# Altium schematic symbol library rcl@1.SCHLIB: 895 symbols (part 3 of 5)
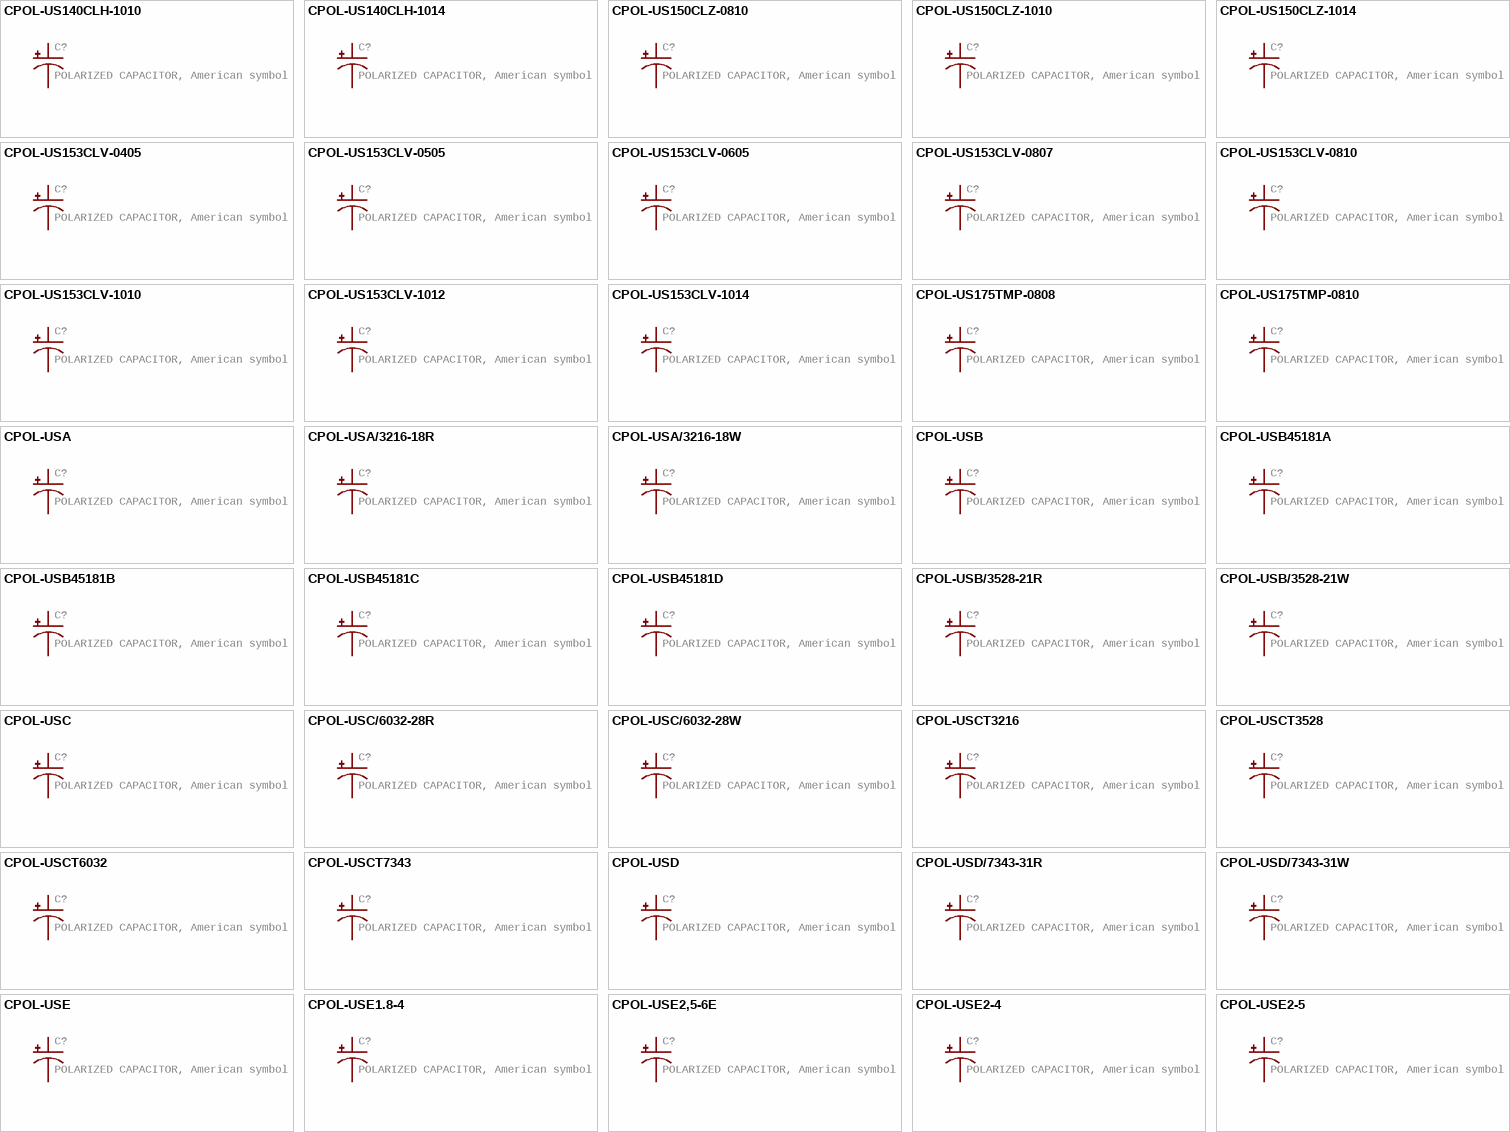
[diagram p24: symbols CPOL-US140CLH-1010 to CPOL-USE2-5]

## CPOL-USB/3528-21R
designator C?, comment POLARIZED CAPACITOR, American symbol
GateName_1: G$1; SymbolName_1: CPOL-US; DeviceName: B/3528-21R; POPULARITY: 0; LibraryName: rcl@1; DeviceSetName: CPOL-US; Package: B/3528-21R; SPICEPREFIX: C
footprint B/3528-21R
pins: +, -

## CPOL-USB/3528-21W
designator C?, comment POLARIZED CAPACITOR, American symbol
GateName_1: G$1; SymbolName_1: CPOL-US; DeviceName: B/3528-21W; POPULARITY: 3; LibraryName: rcl@1; DeviceSetName: CPOL-US; Package: B/3528-21W; SPICEPREFIX: C
footprint B/3528-21W
pins: +, -

## CPOL-USC
designator C?, comment POLARIZED CAPACITOR, American symbol
GateName_1: G$1; SymbolName_1: CPOL-US; DeviceName: C; POPULARITY: 5; LibraryName: rcl@1; DeviceSetName: CPOL-US; Package: PANASONIC_C; SPICEPREFIX: C
footprint PANASONIC_C
pins: +, -

## CPOL-USC/6032-28R
designator C?, comment POLARIZED CAPACITOR, American symbol
GateName_1: G$1; SymbolName_1: CPOL-US; DeviceName: C/6032-28R; POPULARITY: 0; LibraryName: rcl@1; DeviceSetName: CPOL-US; Package: C/6032-28R; SPICEPREFIX: C
footprint C/6032-28R
pins: +, -

## CPOL-USC/6032-28W
designator C?, comment POLARIZED CAPACITOR, American symbol
GateName_1: G$1; SymbolName_1: CPOL-US; DeviceName: C/6032-28W; POPULARITY: 0; LibraryName: rcl@1; DeviceSetName: CPOL-US; Package: C/6032-28W; SPICEPREFIX: C
footprint C/6032-28W
pins: +, -

## CPOL-USCT3216
designator C?, comment POLARIZED CAPACITOR, American symbol
GateName_1: G$1; SymbolName_1: CPOL-US; DeviceName: CT3216; POPULARITY: 2; LibraryName: rcl@1; DeviceSetName: CPOL-US; Package: CT3216; SPICEPREFIX: C
footprint CT3216
pins: +, -

## CPOL-USCT3528
designator C?, comment POLARIZED CAPACITOR, American symbol
GateName_1: G$1; SymbolName_1: CPOL-US; DeviceName: CT3528; POPULARITY: 2; LibraryName: rcl@1; DeviceSetName: CPOL-US; Package: CT3528; SPICEPREFIX: C
footprint CT3528
pins: +, -

## CPOL-USCT6032
designator C?, comment POLARIZED CAPACITOR, American symbol
GateName_1: G$1; SymbolName_1: CPOL-US; DeviceName: CT6032; POPULARITY: 0; LibraryName: rcl@1; DeviceSetName: CPOL-US; Package: CT6032; SPICEPREFIX: C
footprint CT6032
pins: +, -

## CPOL-USCT7343
designator C?, comment POLARIZED CAPACITOR, American symbol
GateName_1: G$1; SymbolName_1: CPOL-US; DeviceName: CT7343; POPULARITY: 7; LibraryName: rcl@1; DeviceSetName: CPOL-US; Package: CT7343; SPICEPREFIX: C
footprint CT7343
pins: +, -

## CPOL-USD
designator C?, comment POLARIZED CAPACITOR, American symbol
GateName_1: G$1; SymbolName_1: CPOL-US; DeviceName: D; POPULARITY: 7; LibraryName: rcl@1; DeviceSetName: CPOL-US; Package: PANASONIC_D; SPICEPREFIX: C
footprint PANASONIC_D
pins: +, -

## CPOL-USD/7343-31R
designator C?, comment POLARIZED CAPACITOR, American symbol
GateName_1: G$1; SymbolName_1: CPOL-US; DeviceName: D/7343-31R; POPULARITY: 1; LibraryName: rcl@1; DeviceSetName: CPOL-US; Package: D/7343-31R; SPICEPREFIX: C
footprint D/7343-31R
pins: +, -

## CPOL-USD/7343-31W
designator C?, comment POLARIZED CAPACITOR, American symbol
GateName_1: G$1; SymbolName_1: CPOL-US; DeviceName: D/7343-31W; POPULARITY: 1; LibraryName: rcl@1; DeviceSetName: CPOL-US; Package: D/7343-31W; SPICEPREFIX: C
footprint D/7343-31W
pins: +, -

## CPOL-USE
designator C?, comment POLARIZED CAPACITOR, American symbol
GateName_1: G$1; SymbolName_1: CPOL-US; DeviceName: E; POPULARITY: 0; LibraryName: rcl@1; DeviceSetName: CPOL-US; Package: PANASONIC_E; SPICEPREFIX: C
footprint PANASONIC_E
pins: +, -

## CPOL-USE1.8-4
designator C?, comment POLARIZED CAPACITOR, American symbol
GateName_1: G$1; SymbolName_1: CPOL-US; DeviceName: E1.8-4; POPULARITY: 6; LibraryName: rcl@1; DeviceSetName: CPOL-US; Package: E1,8-4; SPICEPREFIX: C
footprint E1,8-4
pins: +, -

## CPOL-USE2,5-6E
designator C?, comment POLARIZED CAPACITOR, American symbol
GateName_1: G$1; SymbolName_1: CPOL-US; DeviceName: E2,5-6E; POPULARITY: 1; LibraryName: rcl@1; DeviceSetName: CPOL-US; Package: E2,5-6E; SPICEPREFIX: C
footprint E2,5-6E
pins: +, -

## CPOL-USE2-4
designator C?, comment POLARIZED CAPACITOR, American symbol
GateName_1: G$1; SymbolName_1: CPOL-US; DeviceName: E2-4; POPULARITY: 0; LibraryName: rcl@1; DeviceSetName: CPOL-US; Package: E2-4; SPICEPREFIX: C
footprint E2-4
pins: +, -

## CPOL-USE2-5
designator C?, comment POLARIZED CAPACITOR, American symbol
GateName_1: G$1; SymbolName_1: CPOL-US; DeviceName: E2-5; POPULARITY: 7; LibraryName: rcl@1; DeviceSetName: CPOL-US; Package: E2-5; SPICEPREFIX: C
footprint E2-5
pins: +, -

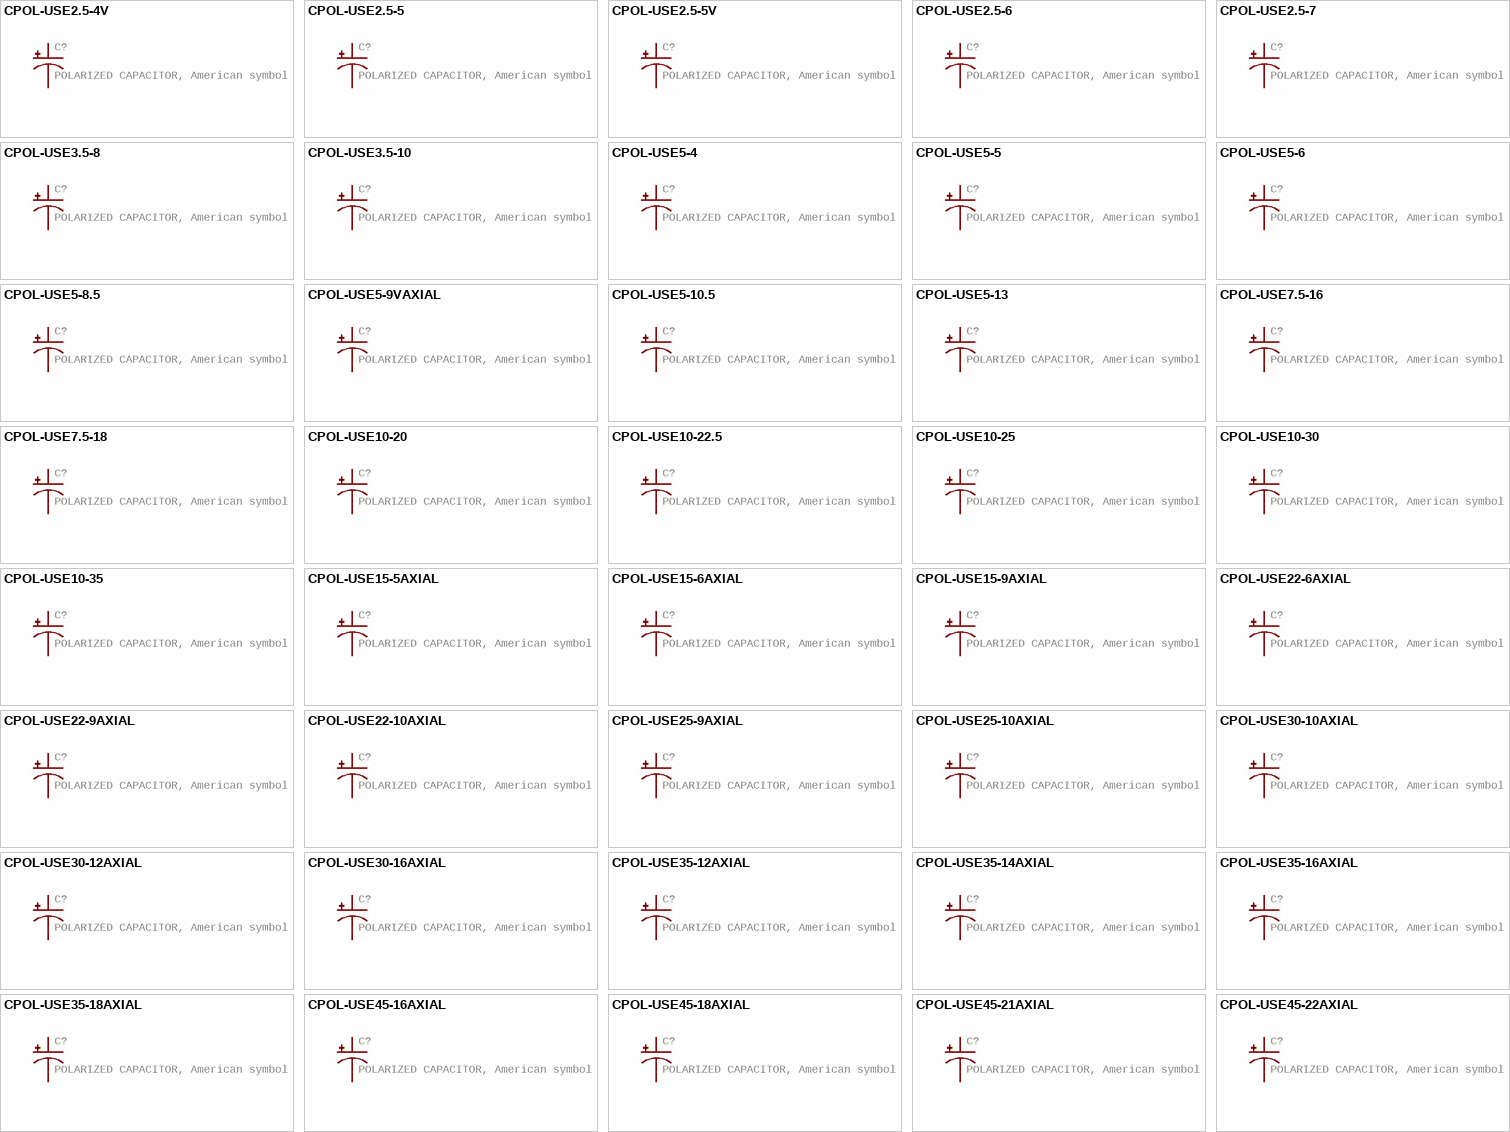
[diagram p10: symbols CPOL-USE2.5-4V to CPOL-USE45-22AXIAL]

## CPOL-USE2.5-4V
designator C?, comment POLARIZED CAPACITOR, American symbol
GateName_1: G$1; SymbolName_1: CPOL-US; DeviceName: E2.5-4V; POPULARITY: 0; LibraryName: rcl@1; DeviceSetName: CPOL-US; Package: E2,5RE; SPICEPREFIX: C
footprint E2,5RE
pins: +, -

## CPOL-USE2.5-5
designator C?, comment POLARIZED CAPACITOR, American symbol
GateName_1: G$1; SymbolName_1: CPOL-US; DeviceName: E2.5-5; POPULARITY: 8; LibraryName: rcl@1; DeviceSetName: CPOL-US; Package: E2,5-5; SPICEPREFIX: C
footprint E2,5-5
pins: +, -

## CPOL-USE2.5-5V
designator C?, comment POLARIZED CAPACITOR, American symbol
GateName_1: G$1; SymbolName_1: CPOL-US; DeviceName: E2.5-5V; POPULARITY: 0; LibraryName: rcl@1; DeviceSetName: CPOL-US; Package: E2,5-4R; SPICEPREFIX: C
footprint E2,5-4R
pins: +, -

## CPOL-USE2.5-6
designator C?, comment POLARIZED CAPACITOR, American symbol
GateName_1: G$1; SymbolName_1: CPOL-US; DeviceName: E2.5-6; POPULARITY: 14; LibraryName: rcl@1; DeviceSetName: CPOL-US; Package: E2,5-6; SPICEPREFIX: C
footprint E2,5-6
pins: +, -

## CPOL-USE2.5-7
designator C?, comment POLARIZED CAPACITOR, American symbol
GateName_1: G$1; SymbolName_1: CPOL-US; DeviceName: E2.5-7; POPULARITY: 0; LibraryName: rcl@1; DeviceSetName: CPOL-US; Package: E2,5-7; SPICEPREFIX: C
footprint E2,5-7
pins: +, -

## CPOL-USE3.5-8
designator C?, comment POLARIZED CAPACITOR, American symbol
GateName_1: G$1; SymbolName_1: CPOL-US; DeviceName: E3.5-8; POPULARITY: 9; LibraryName: rcl@1; DeviceSetName: CPOL-US; Package: E3,5-8; SPICEPREFIX: C
footprint E3,5-8
pins: +, -

## CPOL-USE3.5-10
designator C?, comment POLARIZED CAPACITOR, American symbol
GateName_1: G$1; SymbolName_1: CPOL-US; DeviceName: E3.5-10; POPULARITY: 6; LibraryName: rcl@1; DeviceSetName: CPOL-US; Package: E3,5-10; SPICEPREFIX: C
footprint E3,5-10
pins: +, -

## CPOL-USE5-4
designator C?, comment POLARIZED CAPACITOR, American symbol
GateName_1: G$1; SymbolName_1: CPOL-US; DeviceName: E5-4; POPULARITY: 0; LibraryName: rcl@1; DeviceSetName: CPOL-US; Package: E5-4; SPICEPREFIX: C
footprint E5-4
pins: +, -

## CPOL-USE5-5
designator C?, comment POLARIZED CAPACITOR, American symbol
GateName_1: G$1; SymbolName_1: CPOL-US; DeviceName: E5-5; POPULARITY: 5; LibraryName: rcl@1; DeviceSetName: CPOL-US; Package: E5-5; SPICEPREFIX: C
footprint E5-5
pins: +, -

## CPOL-USE5-6
designator C?, comment POLARIZED CAPACITOR, American symbol
GateName_1: G$1; SymbolName_1: CPOL-US; DeviceName: E5-6; POPULARITY: 4; LibraryName: rcl@1; DeviceSetName: CPOL-US; Package: E5-6; SPICEPREFIX: C
footprint E5-6
pins: +, -

## CPOL-USE5-8.5
designator C?, comment POLARIZED CAPACITOR, American symbol
GateName_1: G$1; SymbolName_1: CPOL-US; DeviceName: E5-8.5; POPULARITY: 4; LibraryName: rcl@1; DeviceSetName: CPOL-US; Package: E5-8,5; SPICEPREFIX: C
footprint E5-8,5
pins: +, -

## CPOL-USE5-9VAXIAL
designator C?, comment POLARIZED CAPACITOR, American symbol
GateName_1: G$1; SymbolName_1: CPOL-US; DeviceName: E5-9VAXIAL; POPULARITY: 0; LibraryName: rcl@1; DeviceSetName: CPOL-US; Package: E5R; SPICEPREFIX: C
footprint E5R
pins: +, -

## CPOL-USE5-10.5
designator C?, comment POLARIZED CAPACITOR, American symbol
GateName_1: G$1; SymbolName_1: CPOL-US; DeviceName: E5-10.5; POPULARITY: 12; LibraryName: rcl@1; DeviceSetName: CPOL-US; Package: E5-10,5; SPICEPREFIX: C
footprint E5-10,5
pins: +, -

## CPOL-USE5-13
designator C?, comment POLARIZED CAPACITOR, American symbol
GateName_1: G$1; SymbolName_1: CPOL-US; DeviceName: E5-13; POPULARITY: 7; LibraryName: rcl@1; DeviceSetName: CPOL-US; Package: E5-13; SPICEPREFIX: C
footprint E5-13
pins: +, -

## CPOL-USE7.5-16
designator C?, comment POLARIZED CAPACITOR, American symbol
GateName_1: G$1; SymbolName_1: CPOL-US; DeviceName: E7.5-16; POPULARITY: 0; LibraryName: rcl@1; DeviceSetName: CPOL-US; Package: E7,5-16; SPICEPREFIX: C
footprint E7,5-16
pins: +, -

## CPOL-USE7.5-18
designator C?, comment POLARIZED CAPACITOR, American symbol
GateName_1: G$1; SymbolName_1: CPOL-US; DeviceName: E7.5-18; POPULARITY: 3; LibraryName: rcl@1; DeviceSetName: CPOL-US; Package: E7,5-18; SPICEPREFIX: C
footprint E7,5-18
pins: +, -

## CPOL-USE10-20
designator C?, comment POLARIZED CAPACITOR, American symbol
GateName_1: G$1; SymbolName_1: CPOL-US; DeviceName: E10-20; POPULARITY: 0; LibraryName: rcl@1; DeviceSetName: CPOL-US; Package: EB20D; SPICEPREFIX: C
footprint EB20D
pins: +, -

## CPOL-USE10-22.5
designator C?, comment POLARIZED CAPACITOR, American symbol
GateName_1: G$1; SymbolName_1: CPOL-US; DeviceName: E10-22.5; POPULARITY: 0; LibraryName: rcl@1; DeviceSetName: CPOL-US; Package: EB22,5D; SPICEPREFIX: C
footprint EB22,5D
pins: +, -

## CPOL-USE10-25
designator C?, comment POLARIZED CAPACITOR, American symbol
GateName_1: G$1; SymbolName_1: CPOL-US; DeviceName: E10-25; POPULARITY: 0; LibraryName: rcl@1; DeviceSetName: CPOL-US; Package: EB25D; SPICEPREFIX: C
footprint EB25D
pins: +, -

## CPOL-USE10-30
designator C?, comment POLARIZED CAPACITOR, American symbol
GateName_1: G$1; SymbolName_1: CPOL-US; DeviceName: E10-30; POPULARITY: 1; LibraryName: rcl@1; DeviceSetName: CPOL-US; Package: EB30D; SPICEPREFIX: C
footprint EB30D
pins: +, -

## CPOL-USE10-35
designator C?, comment POLARIZED CAPACITOR, American symbol
GateName_1: G$1; SymbolName_1: CPOL-US; DeviceName: E10-35; POPULARITY: 0; LibraryName: rcl@1; DeviceSetName: CPOL-US; Package: EB35D; SPICEPREFIX: C
footprint EB35D
pins: +, -

## CPOL-USE15-5AXIAL
designator C?, comment POLARIZED CAPACITOR, American symbol
GateName_1: G$1; SymbolName_1: CPOL-US; DeviceName: E15-5AXIAL; POPULARITY: 0; LibraryName: rcl@1; DeviceSetName: CPOL-US; Package: E15-5; SPICEPREFIX: C
footprint E15-5
pins: +, -

## CPOL-USE15-6AXIAL
designator C?, comment POLARIZED CAPACITOR, American symbol
GateName_1: G$1; SymbolName_1: CPOL-US; DeviceName: E15-6AXIAL; POPULARITY: 0; LibraryName: rcl@1; DeviceSetName: CPOL-US; Package: E15-6; SPICEPREFIX: C
footprint E15-6
pins: +, -

## CPOL-USE15-9AXIAL
designator C?, comment POLARIZED CAPACITOR, American symbol
GateName_1: G$1; SymbolName_1: CPOL-US; DeviceName: E15-9AXIAL; POPULARITY: 0; LibraryName: rcl@1; DeviceSetName: CPOL-US; Package: E15-9; SPICEPREFIX: C
footprint E15-9
pins: +, -

## CPOL-USE22-6AXIAL
designator C?, comment POLARIZED CAPACITOR, American symbol
GateName_1: G$1; SymbolName_1: CPOL-US; DeviceName: E22-6AXIAL; POPULARITY: 0; LibraryName: rcl@1; DeviceSetName: CPOL-US; Package: E22-6; SPICEPREFIX: C
footprint E22-6
pins: +, -

## CPOL-USE22-9AXIAL
designator C?, comment POLARIZED CAPACITOR, American symbol
GateName_1: G$1; SymbolName_1: CPOL-US; DeviceName: E22-9AXIAL; POPULARITY: 0; LibraryName: rcl@1; DeviceSetName: CPOL-US; Package: E22-9; SPICEPREFIX: C
footprint E22-9
pins: +, -

## CPOL-USE22-10AXIAL
designator C?, comment POLARIZED CAPACITOR, American symbol
GateName_1: G$1; SymbolName_1: CPOL-US; DeviceName: E22-10AXIAL; POPULARITY: 0; LibraryName: rcl@1; DeviceSetName: CPOL-US; Package: E22-10; SPICEPREFIX: C
footprint E22-10
pins: +, -

## CPOL-USE25-9AXIAL
designator C?, comment POLARIZED CAPACITOR, American symbol
GateName_1: G$1; SymbolName_1: CPOL-US; DeviceName: E25-9AXIAL; POPULARITY: 0; LibraryName: rcl@1; DeviceSetName: CPOL-US; Package: E25-9; SPICEPREFIX: C
footprint E25-9
pins: +, -

## CPOL-USE25-10AXIAL
designator C?, comment POLARIZED CAPACITOR, American symbol
GateName_1: G$1; SymbolName_1: CPOL-US; DeviceName: E25-10AXIAL; POPULARITY: 0; LibraryName: rcl@1; DeviceSetName: CPOL-US; Package: E25-10; SPICEPREFIX: C
footprint E25-10
pins: +, -

## CPOL-USE30-10AXIAL
designator C?, comment POLARIZED CAPACITOR, American symbol
GateName_1: G$1; SymbolName_1: CPOL-US; DeviceName: E30-10AXIAL; POPULARITY: 0; LibraryName: rcl@1; DeviceSetName: CPOL-US; Package: E30-10; SPICEPREFIX: C
footprint E30-10
pins: +, -

## CPOL-USE30-12AXIAL
designator C?, comment POLARIZED CAPACITOR, American symbol
GateName_1: G$1; SymbolName_1: CPOL-US; DeviceName: E30-12AXIAL; POPULARITY: 0; LibraryName: rcl@1; DeviceSetName: CPOL-US; Package: E30-12; SPICEPREFIX: C
footprint E30-12
pins: +, -

## CPOL-USE30-16AXIAL
designator C?, comment POLARIZED CAPACITOR, American symbol
GateName_1: G$1; SymbolName_1: CPOL-US; DeviceName: E30-16AXIAL; POPULARITY: 0; LibraryName: rcl@1; DeviceSetName: CPOL-US; Package: E30-16; SPICEPREFIX: C
footprint E30-16
pins: +, -

## CPOL-USE35-12AXIAL
designator C?, comment POLARIZED CAPACITOR, American symbol
GateName_1: G$1; SymbolName_1: CPOL-US; DeviceName: E35-12AXIAL; POPULARITY: 0; LibraryName: rcl@1; DeviceSetName: CPOL-US; Package: E35-12; SPICEPREFIX: C
footprint E35-12
pins: +, -

## CPOL-USE35-14AXIAL
designator C?, comment POLARIZED CAPACITOR, American symbol
GateName_1: G$1; SymbolName_1: CPOL-US; DeviceName: E35-14AXIAL; POPULARITY: 0; LibraryName: rcl@1; DeviceSetName: CPOL-US; Package: E35-14; SPICEPREFIX: C
footprint E35-14
pins: +, -

## CPOL-USE35-16AXIAL
designator C?, comment POLARIZED CAPACITOR, American symbol
GateName_1: G$1; SymbolName_1: CPOL-US; DeviceName: E35-16AXIAL; POPULARITY: 0; LibraryName: rcl@1; DeviceSetName: CPOL-US; Package: E35-16; SPICEPREFIX: C
footprint E35-16
pins: +, -

## CPOL-USE35-18AXIAL
designator C?, comment POLARIZED CAPACITOR, American symbol
GateName_1: G$1; SymbolName_1: CPOL-US; DeviceName: E35-18AXIAL; POPULARITY: 0; LibraryName: rcl@1; DeviceSetName: CPOL-US; Package: E35-18; SPICEPREFIX: C
footprint E35-18
pins: +, -

## CPOL-USE45-16AXIAL
designator C?, comment POLARIZED CAPACITOR, American symbol
GateName_1: G$1; SymbolName_1: CPOL-US; DeviceName: E45-16AXIAL; POPULARITY: 0; LibraryName: rcl@1; DeviceSetName: CPOL-US; Package: E45-16; SPICEPREFIX: C
footprint E45-16
pins: +, -

## CPOL-USE45-18AXIAL
designator C?, comment POLARIZED CAPACITOR, American symbol
GateName_1: G$1; SymbolName_1: CPOL-US; DeviceName: E45-18AXIAL; POPULARITY: 0; LibraryName: rcl@1; DeviceSetName: CPOL-US; Package: E45-18; SPICEPREFIX: C
footprint E45-18
pins: +, -

## CPOL-USE45-21AXIAL
designator C?, comment POLARIZED CAPACITOR, American symbol
GateName_1: G$1; SymbolName_1: CPOL-US; DeviceName: E45-21AXIAL; POPULARITY: 0; LibraryName: rcl@1; DeviceSetName: CPOL-US; Package: E45-21; SPICEPREFIX: C
footprint E45-21
pins: +, -

## CPOL-USE45-22AXIAL
designator C?, comment POLARIZED CAPACITOR, American symbol
GateName_1: G$1; SymbolName_1: CPOL-US; DeviceName: E45-22AXIAL; POPULARITY: 0; LibraryName: rcl@1; DeviceSetName: CPOL-US; Package: E45-22; SPICEPREFIX: C
footprint E45-22
pins: +, -

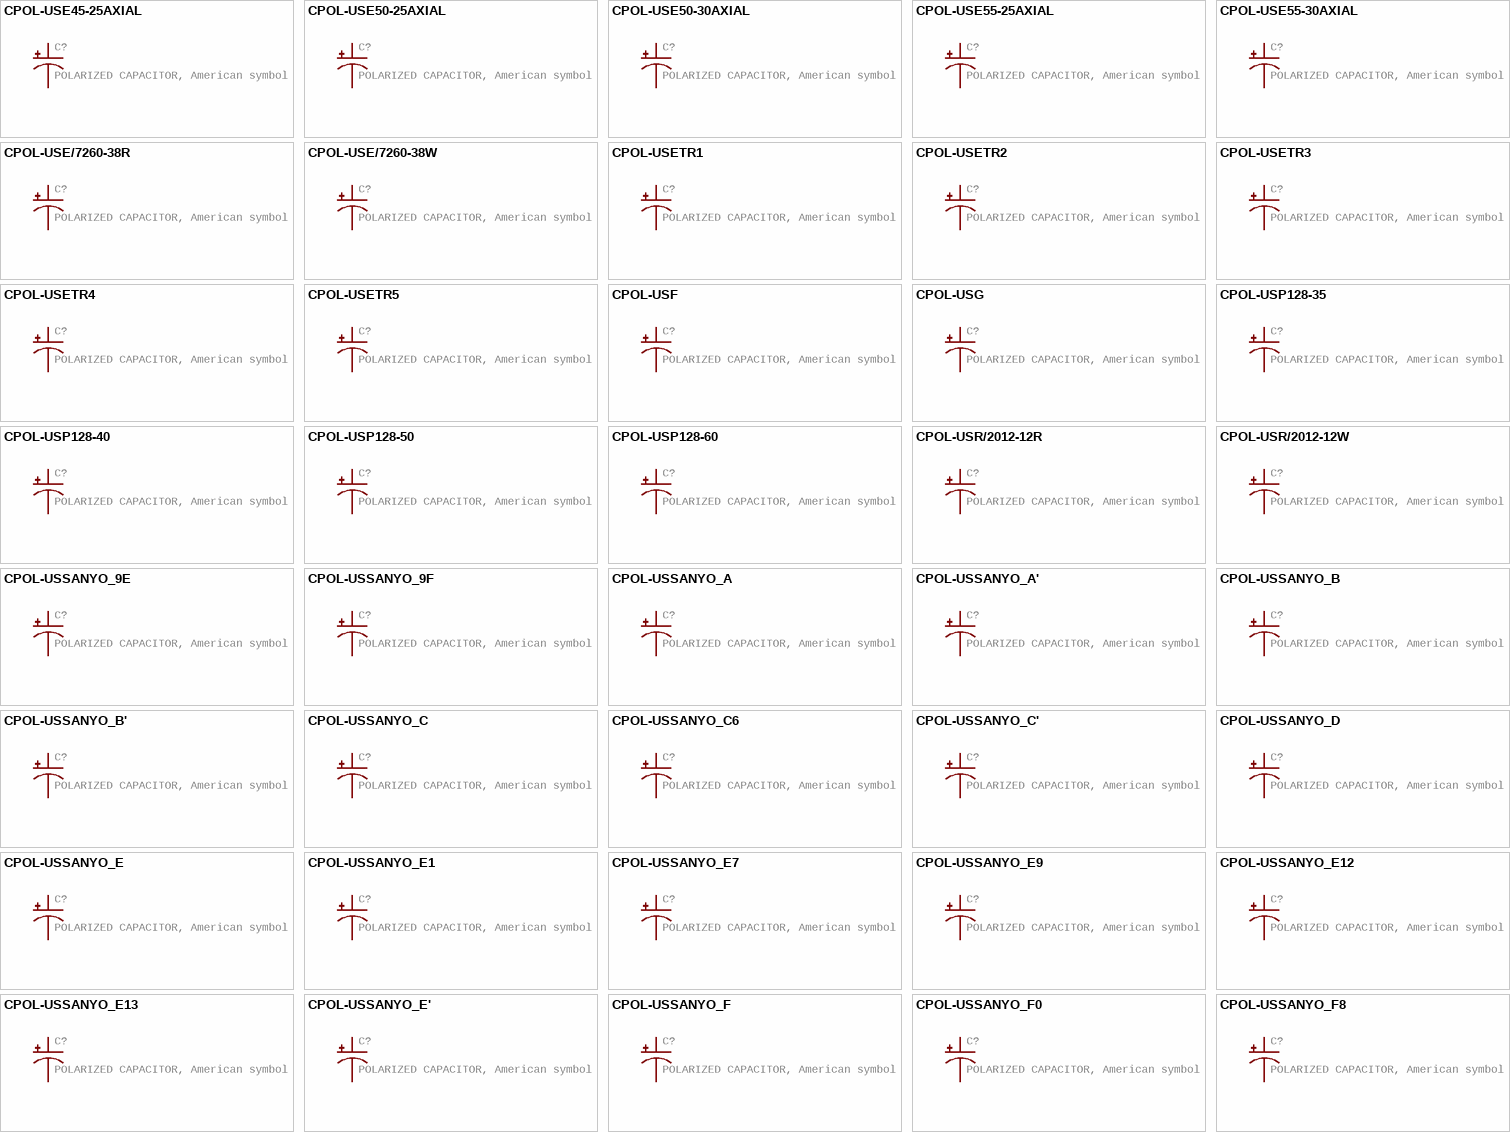
[diagram p11: symbols CPOL-USE45-25AXIAL to CPOL-USSANYO_F8]

## CPOL-USE45-25AXIAL
designator C?, comment POLARIZED CAPACITOR, American symbol
GateName_1: G$1; SymbolName_1: CPOL-US; DeviceName: E45-25AXIAL; POPULARITY: 0; LibraryName: rcl@1; DeviceSetName: CPOL-US; Package: E45-25; SPICEPREFIX: C
footprint E45-25
pins: +, -

## CPOL-USE50-25AXIAL
designator C?, comment POLARIZED CAPACITOR, American symbol
GateName_1: G$1; SymbolName_1: CPOL-US; DeviceName: E50-25AXIAL; POPULARITY: 0; LibraryName: rcl@1; DeviceSetName: CPOL-US; Package: E50-25; SPICEPREFIX: C
footprint E50-25
pins: +, -

## CPOL-USE50-30AXIAL
designator C?, comment POLARIZED CAPACITOR, American symbol
GateName_1: G$1; SymbolName_1: CPOL-US; DeviceName: E50-30AXIAL; POPULARITY: 0; LibraryName: rcl@1; DeviceSetName: CPOL-US; Package: E50-30; SPICEPREFIX: C
footprint E50-30
pins: +, -

## CPOL-USE55-25AXIAL
designator C?, comment POLARIZED CAPACITOR, American symbol
GateName_1: G$1; SymbolName_1: CPOL-US; DeviceName: E55-25AXIAL; POPULARITY: 0; LibraryName: rcl@1; DeviceSetName: CPOL-US; Package: E55-25; SPICEPREFIX: C
footprint E55-25
pins: +, -

## CPOL-USE55-30AXIAL
designator C?, comment POLARIZED CAPACITOR, American symbol
GateName_1: G$1; SymbolName_1: CPOL-US; DeviceName: E55-30AXIAL; POPULARITY: 0; LibraryName: rcl@1; DeviceSetName: CPOL-US; Package: E55-30; SPICEPREFIX: C
footprint E55-30
pins: +, -

## CPOL-USE/7260-38R
designator C?, comment POLARIZED CAPACITOR, American symbol
GateName_1: G$1; SymbolName_1: CPOL-US; DeviceName: E/7260-38R; POPULARITY: 1; LibraryName: rcl@1; DeviceSetName: CPOL-US; Package: E/7260-38R; SPICEPREFIX: C
footprint E/7260-38R
pins: +, -

## CPOL-USE/7260-38W
designator C?, comment POLARIZED CAPACITOR, American symbol
GateName_1: G$1; SymbolName_1: CPOL-US; DeviceName: E/7260-38W; POPULARITY: 0; LibraryName: rcl@1; DeviceSetName: CPOL-US; Package: E/7260-38W; SPICEPREFIX: C
footprint E/7260-38W
pins: +, -

## CPOL-USETR1
designator C?, comment POLARIZED CAPACITOR, American symbol
GateName_1: G$1; SymbolName_1: CPOL-US; DeviceName: ETR1; POPULARITY: 0; LibraryName: rcl@1; DeviceSetName: CPOL-US; Package: ETR1; SPICEPREFIX: C
footprint ETR1
pins: +, -

## CPOL-USETR2
designator C?, comment POLARIZED CAPACITOR, American symbol
GateName_1: G$1; SymbolName_1: CPOL-US; DeviceName: ETR2; POPULARITY: 0; LibraryName: rcl@1; DeviceSetName: CPOL-US; Package: ETR2; SPICEPREFIX: C
footprint ETR2
pins: +, -

## CPOL-USETR3
designator C?, comment POLARIZED CAPACITOR, American symbol
GateName_1: G$1; SymbolName_1: CPOL-US; DeviceName: ETR3; POPULARITY: 4; LibraryName: rcl@1; DeviceSetName: CPOL-US; Package: ETR3; SPICEPREFIX: C
footprint ETR3
pins: +, -

## CPOL-USETR4
designator C?, comment POLARIZED CAPACITOR, American symbol
GateName_1: G$1; SymbolName_1: CPOL-US; DeviceName: ETR4; POPULARITY: 0; LibraryName: rcl@1; DeviceSetName: CPOL-US; Package: ETR4; SPICEPREFIX: C
footprint ETR4
pins: +, -

## CPOL-USETR5
designator C?, comment POLARIZED CAPACITOR, American symbol
GateName_1: G$1; SymbolName_1: CPOL-US; DeviceName: ETR5; POPULARITY: 0; LibraryName: rcl@1; DeviceSetName: CPOL-US; Package: ETR5; SPICEPREFIX: C
footprint ETR5
pins: +, -

## CPOL-USF
designator C?, comment POLARIZED CAPACITOR, American symbol
GateName_1: G$1; SymbolName_1: CPOL-US; DeviceName: F; POPULARITY: 2; LibraryName: rcl@1; DeviceSetName: CPOL-US; Package: PANASONIC_F; SPICEPREFIX: C
footprint PANASONIC_F
pins: +, -

## CPOL-USG
designator C?, comment POLARIZED CAPACITOR, American symbol
GateName_1: G$1; SymbolName_1: CPOL-US; DeviceName: G; POPULARITY: 0; LibraryName: rcl@1; DeviceSetName: CPOL-US; Package: PANASONIC_G; SPICEPREFIX: C
footprint PANASONIC_G
pins: +, -

## CPOL-USP128-35
designator C?, comment POLARIZED CAPACITOR, American symbol
GateName_1: G$1; SymbolName_1: CPOL-US; DeviceName: P128-35; POPULARITY: 0; LibraryName: rcl@1; DeviceSetName: CPOL-US; Package: P128-35; SPICEPREFIX: C
footprint P128-35
pins: +, -

## CPOL-USP128-40
designator C?, comment POLARIZED CAPACITOR, American symbol
GateName_1: G$1; SymbolName_1: CPOL-US; DeviceName: P128-40; POPULARITY: 0; LibraryName: rcl@1; DeviceSetName: CPOL-US; Package: P128-40; SPICEPREFIX: C
footprint P128-40
pins: +, -

## CPOL-USP128-50
designator C?, comment POLARIZED CAPACITOR, American symbol
GateName_1: G$1; SymbolName_1: CPOL-US; DeviceName: P128-50; POPULARITY: 0; LibraryName: rcl@1; DeviceSetName: CPOL-US; Package: P128-50; SPICEPREFIX: C
footprint P128-50
pins: +, -

## CPOL-USP128-60
designator C?, comment POLARIZED CAPACITOR, American symbol
GateName_1: G$1; SymbolName_1: CPOL-US; DeviceName: P128-60; POPULARITY: 0; LibraryName: rcl@1; DeviceSetName: CPOL-US; Package: P128-60; SPICEPREFIX: C
footprint P128-60
pins: +, -

## CPOL-USR/2012-12R
designator C?, comment POLARIZED CAPACITOR, American symbol
GateName_1: G$1; SymbolName_1: CPOL-US; DeviceName: R/2012-12R; POPULARITY: 0; LibraryName: rcl@1; DeviceSetName: CPOL-US; Package: R/2012-12R; SPICEPREFIX: C
footprint R/2012-12R
pins: +, -

## CPOL-USR/2012-12W
designator C?, comment POLARIZED CAPACITOR, American symbol
GateName_1: G$1; SymbolName_1: CPOL-US; DeviceName: R/2012-12W; POPULARITY: 0; LibraryName: rcl@1; DeviceSetName: CPOL-US; Package: R/2012-12W; SPICEPREFIX: C
footprint R/2012-12W
pins: +, -

## CPOL-USSANYO_9E
designator C?, comment POLARIZED CAPACITOR, American symbol
GateName_1: G$1; SymbolName_1: CPOL-US; DeviceName: SANYO_9E; POPULARITY: 0; LibraryName: rcl@1; DeviceSetName: CPOL-US; Package: SANYO-OSCON_9E; SPICEPREFIX: C
footprint SANYO-OSCON_9E
pins: +, -

## CPOL-USSANYO_9F
designator C?, comment POLARIZED CAPACITOR, American symbol
GateName_1: G$1; SymbolName_1: CPOL-US; DeviceName: SANYO_9F; POPULARITY: 0; LibraryName: rcl@1; DeviceSetName: CPOL-US; Package: SANYO-OSCON_9F; SPICEPREFIX: C
footprint SANYO-OSCON_9F
pins: +, -

## CPOL-USSANYO_A
designator C?, comment POLARIZED CAPACITOR, American symbol
GateName_1: G$1; SymbolName_1: CPOL-US; DeviceName: SANYO_A; POPULARITY: 0; LibraryName: rcl@1; DeviceSetName: CPOL-US; Package: SANYO-OSCON_A; SPICEPREFIX: C
footprint SANYO-OSCON_A
pins: +, -

## CPOL-USSANYO_A'
designator C?, comment POLARIZED CAPACITOR, American symbol
GateName_1: G$1; SymbolName_1: CPOL-US; DeviceName: SANYO_A'; POPULARITY: 0; LibraryName: rcl@1; DeviceSetName: CPOL-US; Package: SANYO-OSCON_A'; SPICEPREFIX: C
footprint SANYO-OSCON_A'
pins: +, -

## CPOL-USSANYO_B
designator C?, comment POLARIZED CAPACITOR, American symbol
GateName_1: G$1; SymbolName_1: CPOL-US; DeviceName: SANYO_B; POPULARITY: 0; LibraryName: rcl@1; DeviceSetName: CPOL-US; Package: SANYO-OSCON_B; SPICEPREFIX: C
footprint SANYO-OSCON_B
pins: +, -

## CPOL-USSANYO_B'
designator C?, comment POLARIZED CAPACITOR, American symbol
GateName_1: G$1; SymbolName_1: CPOL-US; DeviceName: SANYO_B'; POPULARITY: 0; LibraryName: rcl@1; DeviceSetName: CPOL-US; Package: SANYO-OSCON_B'; SPICEPREFIX: C
footprint SANYO-OSCON_B'
pins: +, -

## CPOL-USSANYO_C
designator C?, comment POLARIZED CAPACITOR, American symbol
GateName_1: G$1; SymbolName_1: CPOL-US; DeviceName: SANYO_C; POPULARITY: 0; LibraryName: rcl@1; DeviceSetName: CPOL-US; Package: SANYO-OSCON_C; SPICEPREFIX: C
footprint SANYO-OSCON_C
pins: +, -

## CPOL-USSANYO_C6
designator C?, comment POLARIZED CAPACITOR, American symbol
GateName_1: G$1; SymbolName_1: CPOL-US; DeviceName: SANYO_C6; POPULARITY: 0; LibraryName: rcl@1; DeviceSetName: CPOL-US; Package: SANYO-OSCON_C6; SPICEPREFIX: C
footprint SANYO-OSCON_C6
pins: +, -

## CPOL-USSANYO_C'
designator C?, comment POLARIZED CAPACITOR, American symbol
GateName_1: G$1; SymbolName_1: CPOL-US; DeviceName: SANYO_C'; POPULARITY: 0; LibraryName: rcl@1; DeviceSetName: CPOL-US; Package: SANYO-OSCON_C'; SPICEPREFIX: C
footprint SANYO-OSCON_C'
pins: +, -

## CPOL-USSANYO_D
designator C?, comment POLARIZED CAPACITOR, American symbol
GateName_1: G$1; SymbolName_1: CPOL-US; DeviceName: SANYO_D; POPULARITY: 0; LibraryName: rcl@1; DeviceSetName: CPOL-US; Package: SANYO-OSCON_D; SPICEPREFIX: C
footprint SANYO-OSCON_D
pins: +, -

## CPOL-USSANYO_E
designator C?, comment POLARIZED CAPACITOR, American symbol
GateName_1: G$1; SymbolName_1: CPOL-US; DeviceName: SANYO_E; POPULARITY: 0; LibraryName: rcl@1; DeviceSetName: CPOL-US; Package: SANYO-OSCON_E; SPICEPREFIX: C
footprint SANYO-OSCON_E
pins: +, -

## CPOL-USSANYO_E1
designator C?, comment POLARIZED CAPACITOR, American symbol
GateName_1: G$1; SymbolName_1: CPOL-US; DeviceName: SANYO_E1; POPULARITY: 0; LibraryName: rcl@1; DeviceSetName: CPOL-US; Package: SANYO-OSCON_E1; SPICEPREFIX: C
footprint SANYO-OSCON_E1
pins: +, -

## CPOL-USSANYO_E7
designator C?, comment POLARIZED CAPACITOR, American symbol
GateName_1: G$1; SymbolName_1: CPOL-US; DeviceName: SANYO_E7; POPULARITY: 0; LibraryName: rcl@1; DeviceSetName: CPOL-US; Package: SANYO-OSCON_E7; SPICEPREFIX: C
footprint SANYO-OSCON_E7
pins: +, -

## CPOL-USSANYO_E9
designator C?, comment POLARIZED CAPACITOR, American symbol
GateName_1: G$1; SymbolName_1: CPOL-US; DeviceName: SANYO_E9; POPULARITY: 0; LibraryName: rcl@1; DeviceSetName: CPOL-US; Package: SANYO-OSCON_E9; SPICEPREFIX: C
footprint SANYO-OSCON_E9
pins: +, -

## CPOL-USSANYO_E12
designator C?, comment POLARIZED CAPACITOR, American symbol
GateName_1: G$1; SymbolName_1: CPOL-US; DeviceName: SANYO_E12; POPULARITY: 0; LibraryName: rcl@1; DeviceSetName: CPOL-US; Package: SANYO-OSCON_E12; SPICEPREFIX: C
footprint SANYO-OSCON_E12
pins: +, -

## CPOL-USSANYO_E13
designator C?, comment POLARIZED CAPACITOR, American symbol
GateName_1: G$1; SymbolName_1: CPOL-US; DeviceName: SANYO_E13; POPULARITY: 0; LibraryName: rcl@1; DeviceSetName: CPOL-US; Package: SANYO-OSCON_E13; SPICEPREFIX: C
footprint SANYO-OSCON_E13
pins: +, -

## CPOL-USSANYO_E'
designator C?, comment POLARIZED CAPACITOR, American symbol
GateName_1: G$1; SymbolName_1: CPOL-US; DeviceName: SANYO_E'; POPULARITY: 0; LibraryName: rcl@1; DeviceSetName: CPOL-US; Package: SANYO-OSCON_E'; SPICEPREFIX: C
footprint SANYO-OSCON_E'
pins: +, -

## CPOL-USSANYO_F
designator C?, comment POLARIZED CAPACITOR, American symbol
GateName_1: G$1; SymbolName_1: CPOL-US; DeviceName: SANYO_F; POPULARITY: 0; LibraryName: rcl@1; DeviceSetName: CPOL-US; Package: SANYO-OSCON_F; SPICEPREFIX: C
footprint SANYO-OSCON_F
pins: +, -

## CPOL-USSANYO_F0
designator C?, comment POLARIZED CAPACITOR, American symbol
GateName_1: G$1; SymbolName_1: CPOL-US; DeviceName: SANYO_F0; POPULARITY: 0; LibraryName: rcl@1; DeviceSetName: CPOL-US; Package: SANYO-OSCON_F0; SPICEPREFIX: C
footprint SANYO-OSCON_F0
pins: +, -

## CPOL-USSANYO_F8
designator C?, comment POLARIZED CAPACITOR, American symbol
GateName_1: G$1; SymbolName_1: CPOL-US; DeviceName: SANYO_F8; POPULARITY: 0; LibraryName: rcl@1; DeviceSetName: CPOL-US; Package: SANYO-OSCON_F8; SPICEPREFIX: C
footprint SANYO-OSCON_F8
pins: +, -

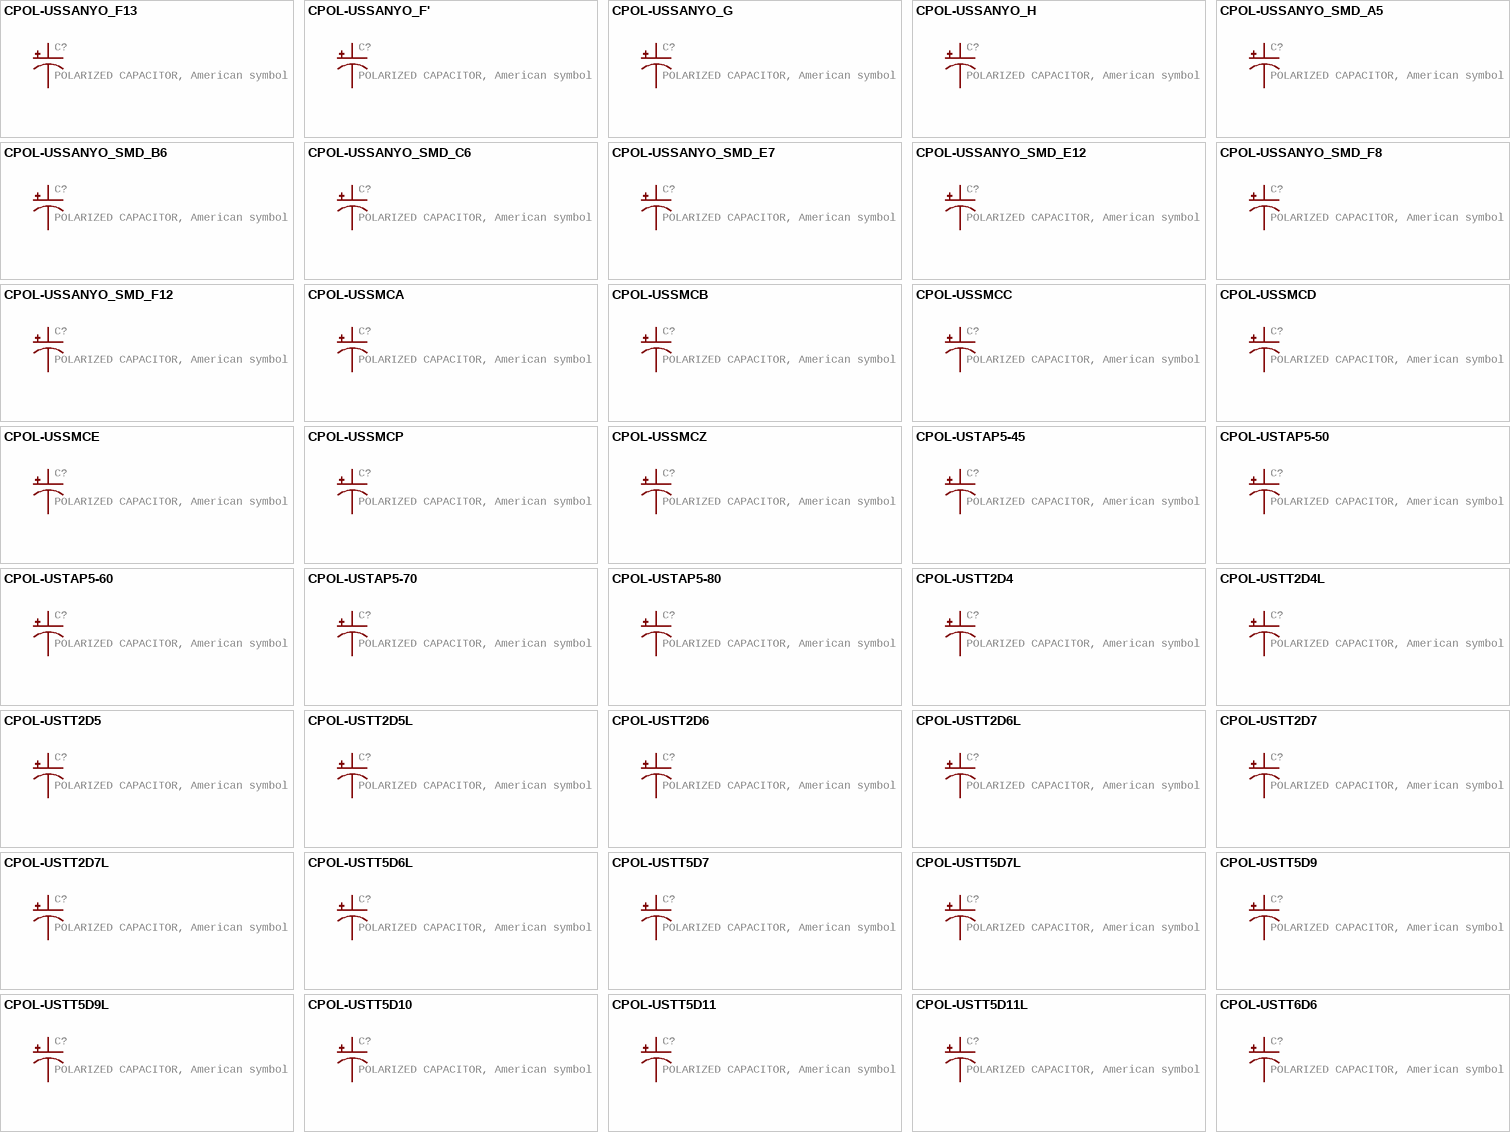
[diagram p12: symbols CPOL-USSANYO_F13 to CPOL-USTT6D6]

## CPOL-USSANYO_F13
designator C?, comment POLARIZED CAPACITOR, American symbol
GateName_1: G$1; SymbolName_1: CPOL-US; DeviceName: SANYO_F13; POPULARITY: 0; LibraryName: rcl@1; DeviceSetName: CPOL-US; Package: SANYO-OSCON_F13; SPICEPREFIX: C
footprint SANYO-OSCON_F13
pins: +, -

## CPOL-USSANYO_F'
designator C?, comment POLARIZED CAPACITOR, American symbol
GateName_1: G$1; SymbolName_1: CPOL-US; DeviceName: SANYO_F'; POPULARITY: 0; LibraryName: rcl@1; DeviceSetName: CPOL-US; Package: SANYO-OSCON_F'; SPICEPREFIX: C
footprint SANYO-OSCON_F'
pins: +, -

## CPOL-USSANYO_G
designator C?, comment POLARIZED CAPACITOR, American symbol
GateName_1: G$1; SymbolName_1: CPOL-US; DeviceName: SANYO_G; POPULARITY: 0; LibraryName: rcl@1; DeviceSetName: CPOL-US; Package: SANYO-OSCON_G; SPICEPREFIX: C
footprint SANYO-OSCON_G
pins: +, -

## CPOL-USSANYO_H
designator C?, comment POLARIZED CAPACITOR, American symbol
GateName_1: G$1; SymbolName_1: CPOL-US; DeviceName: SANYO_H; POPULARITY: 0; LibraryName: rcl@1; DeviceSetName: CPOL-US; Package: SANYO-OSCON_H; SPICEPREFIX: C
footprint SANYO-OSCON_H
pins: +, -

## CPOL-USSANYO_SMD_A5
designator C?, comment POLARIZED CAPACITOR, American symbol
GateName_1: G$1; SymbolName_1: CPOL-US; DeviceName: SANYO_SMD_A5; POPULARITY: 0; LibraryName: rcl@1; DeviceSetName: CPOL-US; Package: SANYO-OSCON_SMD_A5; SPICEPREFIX: C
footprint SANYO-OSCON_SMD_A5
pins: +, -

## CPOL-USSANYO_SMD_B6
designator C?, comment POLARIZED CAPACITOR, American symbol
GateName_1: G$1; SymbolName_1: CPOL-US; DeviceName: SANYO_SMD_B6; POPULARITY: 0; LibraryName: rcl@1; DeviceSetName: CPOL-US; Package: SANYO-OSCON_SMD_B6; SPICEPREFIX: C
footprint SANYO-OSCON_SMD_B6
pins: +, -

## CPOL-USSANYO_SMD_C6
designator C?, comment POLARIZED CAPACITOR, American symbol
GateName_1: G$1; SymbolName_1: CPOL-US; DeviceName: SANYO_SMD_C6; POPULARITY: 0; LibraryName: rcl@1; DeviceSetName: CPOL-US; Package: SANYO-OSCON_SMD_C6; SPICEPREFIX: C
footprint SANYO-OSCON_SMD_C6
pins: +, -

## CPOL-USSANYO_SMD_E7
designator C?, comment POLARIZED CAPACITOR, American symbol
GateName_1: G$1; SymbolName_1: CPOL-US; DeviceName: SANYO_SMD_E7; POPULARITY: 0; LibraryName: rcl@1; DeviceSetName: CPOL-US; Package: SANYO-OSCON_SMD_E7; SPICEPREFIX: C
footprint SANYO-OSCON_SMD_E7
pins: +, -

## CPOL-USSANYO_SMD_E12
designator C?, comment POLARIZED CAPACITOR, American symbol
GateName_1: G$1; SymbolName_1: CPOL-US; DeviceName: SANYO_SMD_E12; POPULARITY: 0; LibraryName: rcl@1; DeviceSetName: CPOL-US; Package: SANYO-OSCON_SMD_E12; SPICEPREFIX: C
footprint SANYO-OSCON_SMD_E12
pins: +, -

## CPOL-USSANYO_SMD_F8
designator C?, comment POLARIZED CAPACITOR, American symbol
GateName_1: G$1; SymbolName_1: CPOL-US; DeviceName: SANYO_SMD_F8; POPULARITY: 0; LibraryName: rcl@1; DeviceSetName: CPOL-US; Package: SANYO-OSCON_SMD_F8; SPICEPREFIX: C
footprint SANYO-OSCON_SMD_F8
pins: +, -

## CPOL-USSANYO_SMD_F12
designator C?, comment POLARIZED CAPACITOR, American symbol
GateName_1: G$1; SymbolName_1: CPOL-US; DeviceName: SANYO_SMD_F12; POPULARITY: 0; LibraryName: rcl@1; DeviceSetName: CPOL-US; Package: SANYO-OSCON_SMD_F12; SPICEPREFIX: C
footprint SANYO-OSCON_SMD_F12
pins: +, -

## CPOL-USSMCA
designator C?, comment POLARIZED CAPACITOR, American symbol
GateName_1: G$1; SymbolName_1: CPOL-US; DeviceName: SMCA; POPULARITY: 0; LibraryName: rcl@1; DeviceSetName: CPOL-US; Package: SMC_A; SPICEPREFIX: C
footprint SMC_A
pins: +, -

## CPOL-USSMCB
designator C?, comment POLARIZED CAPACITOR, American symbol
GateName_1: G$1; SymbolName_1: CPOL-US; DeviceName: SMCB; POPULARITY: 0; LibraryName: rcl@1; DeviceSetName: CPOL-US; Package: SMC_B; SPICEPREFIX: C
footprint SMC_B
pins: +, -

## CPOL-USSMCC
designator C?, comment POLARIZED CAPACITOR, American symbol
GateName_1: G$1; SymbolName_1: CPOL-US; DeviceName: SMCC; POPULARITY: 2; LibraryName: rcl@1; DeviceSetName: CPOL-US; Package: SMC_C; SPICEPREFIX: C
footprint SMC_C
pins: +, -

## CPOL-USSMCD
designator C?, comment POLARIZED CAPACITOR, American symbol
GateName_1: G$1; SymbolName_1: CPOL-US; DeviceName: SMCD; POPULARITY: 0; LibraryName: rcl@1; DeviceSetName: CPOL-US; Package: SMC_D; SPICEPREFIX: C
footprint SMC_D
pins: +, -

## CPOL-USSMCE
designator C?, comment POLARIZED CAPACITOR, American symbol
GateName_1: G$1; SymbolName_1: CPOL-US; DeviceName: SMCE; POPULARITY: 1; LibraryName: rcl@1; DeviceSetName: CPOL-US; Package: SMC_E; SPICEPREFIX: C
footprint SMC_E
pins: +, -

## CPOL-USSMCP
designator C?, comment POLARIZED CAPACITOR, American symbol
GateName_1: G$1; SymbolName_1: CPOL-US; DeviceName: SMCP; POPULARITY: 0; LibraryName: rcl@1; DeviceSetName: CPOL-US; Package: SMC_P; SPICEPREFIX: C
footprint SMC_P
pins: +, -

## CPOL-USSMCZ
designator C?, comment POLARIZED CAPACITOR, American symbol
GateName_1: G$1; SymbolName_1: CPOL-US; DeviceName: SMCZ; POPULARITY: 0; LibraryName: rcl@1; DeviceSetName: CPOL-US; Package: SMC_Z; SPICEPREFIX: C
footprint SMC_Z
pins: +, -

## CPOL-USTAP5-45
designator C?, comment POLARIZED CAPACITOR, American symbol
GateName_1: G$1; SymbolName_1: CPOL-US; DeviceName: TAP5-45; POPULARITY: 1; LibraryName: rcl@1; DeviceSetName: CPOL-US; Package: TAP5-45; SPICEPREFIX: C
footprint TAP5-45
pins: +, -

## CPOL-USTAP5-50
designator C?, comment POLARIZED CAPACITOR, American symbol
GateName_1: G$1; SymbolName_1: CPOL-US; DeviceName: TAP5-50; POPULARITY: 0; LibraryName: rcl@1; DeviceSetName: CPOL-US; Package: TAP5-50; SPICEPREFIX: C
footprint TAP5-50
pins: +, -

## CPOL-USTAP5-60
designator C?, comment POLARIZED CAPACITOR, American symbol
GateName_1: G$1; SymbolName_1: CPOL-US; DeviceName: TAP5-60; POPULARITY: 0; LibraryName: rcl@1; DeviceSetName: CPOL-US; Package: TAP5-60; SPICEPREFIX: C
footprint TAP5-60
pins: +, -

## CPOL-USTAP5-70
designator C?, comment POLARIZED CAPACITOR, American symbol
GateName_1: G$1; SymbolName_1: CPOL-US; DeviceName: TAP5-70; POPULARITY: 0; LibraryName: rcl@1; DeviceSetName: CPOL-US; Package: TAP5-70; SPICEPREFIX: C
footprint TAP5-70
pins: +, -

## CPOL-USTAP5-80
designator C?, comment POLARIZED CAPACITOR, American symbol
GateName_1: G$1; SymbolName_1: CPOL-US; DeviceName: TAP5-80; POPULARITY: 0; LibraryName: rcl@1; DeviceSetName: CPOL-US; Package: TAP5-80; SPICEPREFIX: C
footprint TAP5-80
pins: +, -

## CPOL-USTT2D4
designator C?, comment POLARIZED CAPACITOR, American symbol
GateName_1: G$1; SymbolName_1: CPOL-US; DeviceName: TT2D4; POPULARITY: 0; LibraryName: rcl@1; DeviceSetName: CPOL-US; Package: TT2D4; SPICEPREFIX: C
footprint TT2D4
pins: +, -

## CPOL-USTT2D4L
designator C?, comment POLARIZED CAPACITOR, American symbol
GateName_1: G$1; SymbolName_1: CPOL-US; DeviceName: TT2D4L; POPULARITY: 0; LibraryName: rcl@1; DeviceSetName: CPOL-US; Package: TT2D4L; SPICEPREFIX: C
footprint TT2D4L
pins: +, -

## CPOL-USTT2D5
designator C?, comment POLARIZED CAPACITOR, American symbol
GateName_1: G$1; SymbolName_1: CPOL-US; DeviceName: TT2D5; POPULARITY: 0; LibraryName: rcl@1; DeviceSetName: CPOL-US; Package: TT2D5; SPICEPREFIX: C
footprint TT2D5
pins: +, -

## CPOL-USTT2D5L
designator C?, comment POLARIZED CAPACITOR, American symbol
GateName_1: G$1; SymbolName_1: CPOL-US; DeviceName: TT2D5L; POPULARITY: 0; LibraryName: rcl@1; DeviceSetName: CPOL-US; Package: TT2D5L; SPICEPREFIX: C
footprint TT2D5L
pins: +, -

## CPOL-USTT2D6
designator C?, comment POLARIZED CAPACITOR, American symbol
GateName_1: G$1; SymbolName_1: CPOL-US; DeviceName: TT2D6; POPULARITY: 0; LibraryName: rcl@1; DeviceSetName: CPOL-US; Package: TT2D6; SPICEPREFIX: C
footprint TT2D6
pins: +, -

## CPOL-USTT2D6L
designator C?, comment POLARIZED CAPACITOR, American symbol
GateName_1: G$1; SymbolName_1: CPOL-US; DeviceName: TT2D6L; POPULARITY: 0; LibraryName: rcl@1; DeviceSetName: CPOL-US; Package: TT2D6L; SPICEPREFIX: C
footprint TT2D6L
pins: +, -

## CPOL-USTT2D7
designator C?, comment POLARIZED CAPACITOR, American symbol
GateName_1: G$1; SymbolName_1: CPOL-US; DeviceName: TT2D7; POPULARITY: 0; LibraryName: rcl@1; DeviceSetName: CPOL-US; Package: TT2D7; SPICEPREFIX: C
footprint TT2D7
pins: +, -

## CPOL-USTT2D7L
designator C?, comment POLARIZED CAPACITOR, American symbol
GateName_1: G$1; SymbolName_1: CPOL-US; DeviceName: TT2D7L; POPULARITY: 0; LibraryName: rcl@1; DeviceSetName: CPOL-US; Package: TT2D7L; SPICEPREFIX: C
footprint TT2D7L
pins: +, -

## CPOL-USTT5D6L
designator C?, comment POLARIZED CAPACITOR, American symbol
GateName_1: G$1; SymbolName_1: CPOL-US; DeviceName: TT5D6L; POPULARITY: 0; LibraryName: rcl@1; DeviceSetName: CPOL-US; Package: TT5D6L; SPICEPREFIX: C
footprint TT5D6L
pins: +, -

## CPOL-USTT5D7
designator C?, comment POLARIZED CAPACITOR, American symbol
GateName_1: G$1; SymbolName_1: CPOL-US; DeviceName: TT5D7; POPULARITY: 0; LibraryName: rcl@1; DeviceSetName: CPOL-US; Package: TT5D7; SPICEPREFIX: C
footprint TT5D7
pins: +, -

## CPOL-USTT5D7L
designator C?, comment POLARIZED CAPACITOR, American symbol
GateName_1: G$1; SymbolName_1: CPOL-US; DeviceName: TT5D7L; POPULARITY: 0; LibraryName: rcl@1; DeviceSetName: CPOL-US; Package: TT5D7L; SPICEPREFIX: C
footprint TT5D7L
pins: +, -

## CPOL-USTT5D9
designator C?, comment POLARIZED CAPACITOR, American symbol
GateName_1: G$1; SymbolName_1: CPOL-US; DeviceName: TT5D9; POPULARITY: 0; LibraryName: rcl@1; DeviceSetName: CPOL-US; Package: TT5D9; SPICEPREFIX: C
footprint TT5D9
pins: +, -

## CPOL-USTT5D9L
designator C?, comment POLARIZED CAPACITOR, American symbol
GateName_1: G$1; SymbolName_1: CPOL-US; DeviceName: TT5D9L; POPULARITY: 0; LibraryName: rcl@1; DeviceSetName: CPOL-US; Package: TT5D9L; SPICEPREFIX: C
footprint TT5D9L
pins: +, -

## CPOL-USTT5D10
designator C?, comment POLARIZED CAPACITOR, American symbol
GateName_1: G$1; SymbolName_1: CPOL-US; DeviceName: TT5D10; POPULARITY: 1; LibraryName: rcl@1; DeviceSetName: CPOL-US; Package: TT5D10; SPICEPREFIX: C
footprint TT5D10
pins: +, -

## CPOL-USTT5D11
designator C?, comment POLARIZED CAPACITOR, American symbol
GateName_1: G$1; SymbolName_1: CPOL-US; DeviceName: TT5D11; POPULARITY: 0; LibraryName: rcl@1; DeviceSetName: CPOL-US; Package: TT5D11; SPICEPREFIX: C
footprint TT5D11
pins: +, -

## CPOL-USTT5D11L
designator C?, comment POLARIZED CAPACITOR, American symbol
GateName_1: G$1; SymbolName_1: CPOL-US; DeviceName: TT5D11L; POPULARITY: 0; LibraryName: rcl@1; DeviceSetName: CPOL-US; Package: TT5D11L; SPICEPREFIX: C
footprint TT5D11L
pins: +, -

## CPOL-USTT6D6
designator C?, comment POLARIZED CAPACITOR, American symbol
GateName_1: G$1; SymbolName_1: CPOL-US; DeviceName: TT6D6; POPULARITY: 0; LibraryName: rcl@1; DeviceSetName: CPOL-US; Package: TT5D6; SPICEPREFIX: C
footprint TT5D6
pins: +, -

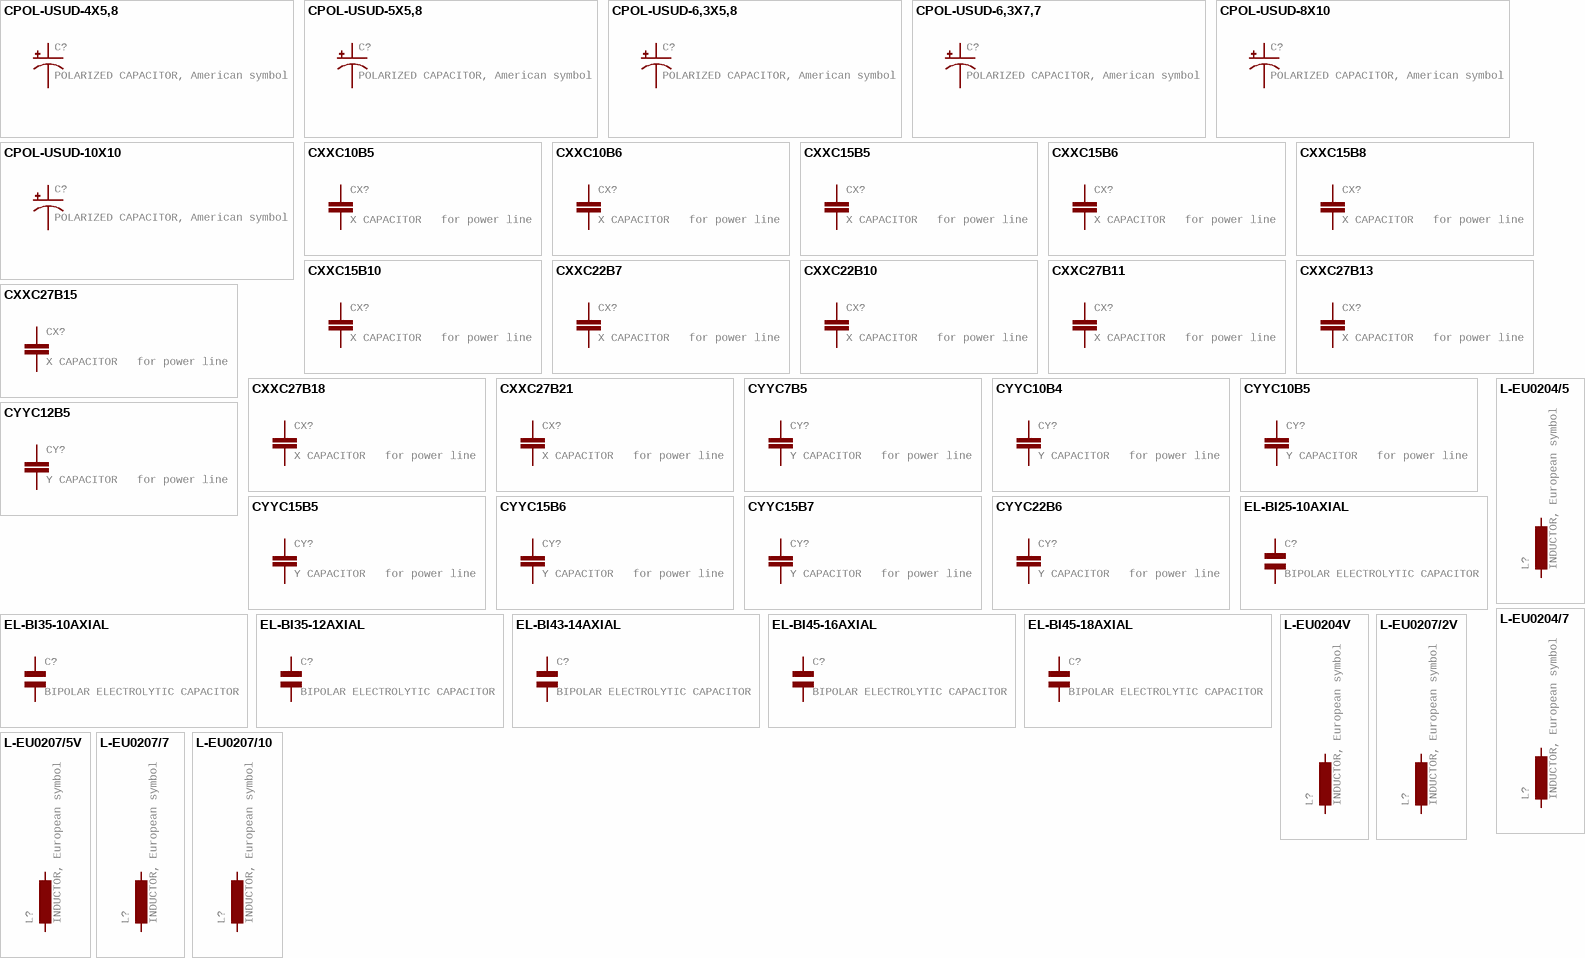
[diagram p13: symbols CPOL-USUD-4X5,8 to L-EU0207/10]

## CPOL-USUD-4X5,8
designator C?, comment POLARIZED CAPACITOR, American symbol
GateName_1: G$1; SymbolName_1: CPOL-US; DeviceName: UD-4X5,8; POPULARITY: 1; LibraryName: rcl@1; DeviceSetName: CPOL-US; Package: UD-4X5,8_NICHICON; SPICEPREFIX: C
footprint UD-4X5,8_NICHICON
pins: +, -

## CPOL-USUD-5X5,8
designator C?, comment POLARIZED CAPACITOR, American symbol
GateName_1: G$1; SymbolName_1: CPOL-US; DeviceName: UD-5X5,8; POPULARITY: 0; LibraryName: rcl@1; DeviceSetName: CPOL-US; Package: UD-5X5,8_NICHICON; SPICEPREFIX: C
footprint UD-5X5,8_NICHICON
pins: +, -

## CPOL-USUD-6,3X5,8
designator C?, comment POLARIZED CAPACITOR, American symbol
GateName_1: G$1; SymbolName_1: CPOL-US; DeviceName: UD-6,3X5,8; POPULARITY: 0; LibraryName: rcl@1; DeviceSetName: CPOL-US; Package: UD-6,3X5,8_NICHICON; SPICEPREFIX: C
footprint UD-6,3X5,8_NICHICON
pins: +, -

## CPOL-USUD-6,3X7,7
designator C?, comment POLARIZED CAPACITOR, American symbol
GateName_1: G$1; SymbolName_1: CPOL-US; DeviceName: UD-6,3X7,7; POPULARITY: 2; LibraryName: rcl@1; DeviceSetName: CPOL-US; Package: UD-6,3X7,7_NICHICON; SPICEPREFIX: C
footprint UD-6,3X7,7_NICHICON
pins: +, -

## CPOL-USUD-8X10
designator C?, comment POLARIZED CAPACITOR, American symbol
GateName_1: G$1; SymbolName_1: CPOL-US; DeviceName: UD-8X10; POPULARITY: 0; LibraryName: rcl@1; DeviceSetName: CPOL-US; Package: UD-8X10_NICHICON; SPICEPREFIX: C
footprint UD-8X10_NICHICON
pins: +, -

## CPOL-USUD-10X10
designator C?, comment POLARIZED CAPACITOR, American symbol
GateName_1: G$1; SymbolName_1: CPOL-US; DeviceName: UD-10X10; POPULARITY: 1; LibraryName: rcl@1; DeviceSetName: CPOL-US; Package: UD-10X10_NICHICON; SPICEPREFIX: C
footprint UD-10X10_NICHICON
pins: +, -

## CXXC10B5
designator CX?, comment X CAPACITOR   for power line
GateName_1: G$1; SymbolName_1: C-EU; DeviceName: XC10B5; DeviceSetName: CX; POPULARITY: 0; LibraryName: rcl@1; Package: XC10B5; SPICEPREFIX: C
footprint XC10B5
pins: 1, 2

## CXXC10B6
designator CX?, comment X CAPACITOR   for power line
GateName_1: G$1; SymbolName_1: C-EU; DeviceName: XC10B6; DeviceSetName: CX; POPULARITY: 1; LibraryName: rcl@1; Package: XC10B6; SPICEPREFIX: C
footprint XC10B6
pins: 1, 2

## CXXC15B5
designator CX?, comment X CAPACITOR   for power line
GateName_1: G$1; SymbolName_1: C-EU; DeviceName: XC15B5; DeviceSetName: CX; POPULARITY: 0; LibraryName: rcl@1; Package: XC15B5; SPICEPREFIX: C
footprint XC15B5
pins: 1, 2

## CXXC15B6
designator CX?, comment X CAPACITOR   for power line
GateName_1: G$1; SymbolName_1: C-EU; DeviceName: XC15B6; DeviceSetName: CX; POPULARITY: 1; LibraryName: rcl@1; Package: XC15B6; SPICEPREFIX: C
footprint XC15B6
pins: 1, 2

## CXXC15B8
designator CX?, comment X CAPACITOR   for power line
GateName_1: G$1; SymbolName_1: C-EU; DeviceName: XC15B8; DeviceSetName: CX; POPULARITY: 3; LibraryName: rcl@1; Package: XC15B8; SPICEPREFIX: C
footprint XC15B8
pins: 1, 2

## CXXC15B10
designator CX?, comment X CAPACITOR   for power line
GateName_1: G$1; SymbolName_1: C-EU; DeviceName: XC15B10; DeviceSetName: CX; POPULARITY: 0; LibraryName: rcl@1; Package: XC15B10; SPICEPREFIX: C
footprint XC15B10
pins: 1, 2

## CXXC22B7
designator CX?, comment X CAPACITOR   for power line
GateName_1: G$1; SymbolName_1: C-EU; DeviceName: XC22B7; DeviceSetName: CX; POPULARITY: 0; LibraryName: rcl@1; Package: XC22B7; SPICEPREFIX: C
footprint XC22B7
pins: 1, 2

## CXXC22B10
designator CX?, comment X CAPACITOR   for power line
GateName_1: G$1; SymbolName_1: C-EU; DeviceName: XC22B10; DeviceSetName: CX; POPULARITY: 0; LibraryName: rcl@1; Package: XC22B10; SPICEPREFIX: C
footprint XC22B10
pins: 1, 2

## CXXC27B11
designator CX?, comment X CAPACITOR   for power line
GateName_1: G$1; SymbolName_1: C-EU; DeviceName: XC27B11; DeviceSetName: CX; POPULARITY: 0; LibraryName: rcl@1; Package: XC27B11; SPICEPREFIX: C
footprint XC27B11
pins: 1, 2

## CXXC27B13
designator CX?, comment X CAPACITOR   for power line
GateName_1: G$1; SymbolName_1: C-EU; DeviceName: XC27B13; DeviceSetName: CX; POPULARITY: 0; LibraryName: rcl@1; Package: XC27B13; SPICEPREFIX: C
footprint XC27B13
pins: 1, 2

## CXXC27B15
designator CX?, comment X CAPACITOR   for power line
GateName_1: G$1; SymbolName_1: C-EU; DeviceName: XC27B15; DeviceSetName: CX; POPULARITY: 0; LibraryName: rcl@1; Package: XC27B15; SPICEPREFIX: C
footprint XC27B15
pins: 1, 2

## CXXC27B18
designator CX?, comment X CAPACITOR   for power line
GateName_1: G$1; SymbolName_1: C-EU; DeviceName: XC27B18; DeviceSetName: CX; POPULARITY: 0; LibraryName: rcl@1; Package: XC27B18; SPICEPREFIX: C
footprint XC27B18
pins: 1, 2

## CXXC27B21
designator CX?, comment X CAPACITOR   for power line
GateName_1: G$1; SymbolName_1: C-EU; DeviceName: XC27B21; DeviceSetName: CX; POPULARITY: 0; LibraryName: rcl@1; Package: XC27B21; SPICEPREFIX: C
footprint XC27B21
pins: 1, 2

## CYYC7B5
designator CY?, comment Y CAPACITOR   for power line
GateName_1: G$1; SymbolName_1: C-EU; DeviceName: YC7B5; DeviceSetName: CY; POPULARITY: 5; LibraryName: rcl@1; Package: YC7B5; SPICEPREFIX: C
footprint YC7B5
pins: 1, 2

## CYYC10B4
designator CY?, comment Y CAPACITOR   for power line
GateName_1: G$1; SymbolName_1: C-EU; DeviceName: YC10B4; DeviceSetName: CY; POPULARITY: 3; LibraryName: rcl@1; Package: YC10B4; SPICEPREFIX: C
footprint YC10B4
pins: 1, 2

## CYYC10B5
designator CY?, comment Y CAPACITOR   for power line
GateName_1: G$1; SymbolName_1: C-EU; DeviceName: YC10B5; DeviceSetName: CY; POPULARITY: 0; LibraryName: rcl@1; Package: YC10B5; SPICEPREFIX: C
footprint YC10B5
pins: 1, 2

## CYYC12B5
designator CY?, comment Y CAPACITOR   for power line
GateName_1: G$1; SymbolName_1: C-EU; DeviceName: YC12B5; DeviceSetName: CY; POPULARITY: 0; LibraryName: rcl@1; Package: YC12B5; SPICEPREFIX: C
footprint YC12B5
pins: 1, 2

## CYYC15B5
designator CY?, comment Y CAPACITOR   for power line
GateName_1: G$1; SymbolName_1: C-EU; DeviceName: YC15B5; DeviceSetName: CY; POPULARITY: 0; LibraryName: rcl@1; Package: YC15B5; SPICEPREFIX: C
footprint YC15B5
pins: 1, 2

## CYYC15B6
designator CY?, comment Y CAPACITOR   for power line
GateName_1: G$1; SymbolName_1: C-EU; DeviceName: YC15B6; DeviceSetName: CY; POPULARITY: 0; LibraryName: rcl@1; Package: YC15B6; SPICEPREFIX: C
footprint YC15B6
pins: 1, 2

## CYYC15B7
designator CY?, comment Y CAPACITOR   for power line
GateName_1: G$1; SymbolName_1: C-EU; DeviceName: YC15B7; DeviceSetName: CY; POPULARITY: 0; LibraryName: rcl@1; Package: YC15B7; SPICEPREFIX: C
footprint YC15B7
pins: 1, 2

## CYYC22B6
designator CY?, comment Y CAPACITOR   for power line
GateName_1: G$1; SymbolName_1: C-EU; DeviceName: YC22B6; DeviceSetName: CY; POPULARITY: 0; LibraryName: rcl@1; Package: YC22B7; SPICEPREFIX: C
footprint YC22B7
pins: 1, 2

## EL-BI25-10AXIAL
designator C?, comment BIPOLAR ELECTROLYTIC CAPACITOR
GateName_1: G$1; SymbolName_1: ELKO-BP; DeviceName: BI25-10AXIAL; DeviceSetName: EL-; POPULARITY: 0; LibraryName: rcl@1; Package: EU25-10; SPICEPREFIX: C
footprint EU25-10
pins: 1, 2

## EL-BI35-10AXIAL
designator C?, comment BIPOLAR ELECTROLYTIC CAPACITOR
GateName_1: G$1; SymbolName_1: ELKO-BP; DeviceName: BI35-10AXIAL; DeviceSetName: EL-; POPULARITY: 0; LibraryName: rcl@1; Package: EU35-10; SPICEPREFIX: C
footprint EU35-10
pins: 1, 2

## EL-BI35-12AXIAL
designator C?, comment BIPOLAR ELECTROLYTIC CAPACITOR
GateName_1: G$1; SymbolName_1: ELKO-BP; DeviceName: BI35-12AXIAL; DeviceSetName: EL-; POPULARITY: 0; LibraryName: rcl@1; Package: EU35-12; SPICEPREFIX: C
footprint EU35-12
pins: 1, 2

## EL-BI43-14AXIAL
designator C?, comment BIPOLAR ELECTROLYTIC CAPACITOR
GateName_1: G$1; SymbolName_1: ELKO-BP; DeviceName: BI43-14AXIAL; DeviceSetName: EL-; POPULARITY: 0; LibraryName: rcl@1; Package: EU43-14; SPICEPREFIX: C
footprint EU43-14
pins: 1, 2

## EL-BI45-16AXIAL
designator C?, comment BIPOLAR ELECTROLYTIC CAPACITOR
GateName_1: G$1; SymbolName_1: ELKO-BP; DeviceName: BI45-16AXIAL; DeviceSetName: EL-; POPULARITY: 0; LibraryName: rcl@1; Package: EU45-16; SPICEPREFIX: C
footprint EU45-16
pins: 1, 2

## EL-BI45-18AXIAL
designator C?, comment BIPOLAR ELECTROLYTIC CAPACITOR
GateName_1: G$1; SymbolName_1: ELKO-BP; DeviceName: BI45-18AXIAL; DeviceSetName: EL-; POPULARITY: 0; LibraryName: rcl@1; Package: EU45-18; SPICEPREFIX: C
footprint EU45-18
pins: 1, 2

## L-EU0204/5
designator L?, comment INDUCTOR, European symbol
GateName_1: G$1; SymbolName_1: L-EU; DeviceName: 0204/5; POPULARITY: 2; LibraryName: rcl@1; DeviceSetName: L-EU; Package: 0204/5; SPICEPREFIX: L
footprint 0204/5
pins: 1, 2

## L-EU0204/7
designator L?, comment INDUCTOR, European symbol
GateName_1: G$1; SymbolName_1: L-EU; DeviceName: 0204/7; POPULARITY: 0; LibraryName: rcl@1; DeviceSetName: L-EU; Package: 0204/7; SPICEPREFIX: L
footprint 0204/7
pins: 1, 2

## L-EU0204V
designator L?, comment INDUCTOR, European symbol
GateName_1: G$1; SymbolName_1: L-EU; DeviceName: 0204V; POPULARITY: 2; LibraryName: rcl@1; DeviceSetName: L-EU; Package: 0204V; SPICEPREFIX: L
footprint 0204V
pins: 1, 2

## L-EU0207/2V
designator L?, comment INDUCTOR, European symbol
GateName_1: G$1; SymbolName_1: L-EU; DeviceName: 0207/2V; POPULARITY: 4; LibraryName: rcl@1; DeviceSetName: L-EU; Package: 0207/2V; SPICEPREFIX: L
footprint 0207/2V
pins: 1, 2

## L-EU0207/5V
designator L?, comment INDUCTOR, European symbol
GateName_1: G$1; SymbolName_1: L-EU; DeviceName: 0207/5V; POPULARITY: 1; LibraryName: rcl@1; DeviceSetName: L-EU; Package: 0207/5V; SPICEPREFIX: L
footprint 0207/5V
pins: 1, 2

## L-EU0207/7
designator L?, comment INDUCTOR, European symbol
GateName_1: G$1; SymbolName_1: L-EU; DeviceName: 0207/7; POPULARITY: 0; LibraryName: rcl@1; DeviceSetName: L-EU; Package: 0207/7; SPICEPREFIX: L
footprint 0207/7
pins: 1, 2

## L-EU0207/10
designator L?, comment INDUCTOR, European symbol
GateName_1: G$1; SymbolName_1: L-EU; DeviceName: 0207/10; POPULARITY: 2; LibraryName: rcl@1; DeviceSetName: L-EU; Package: 0207/10; SPICEPREFIX: L
footprint 0207/10
pins: 1, 2

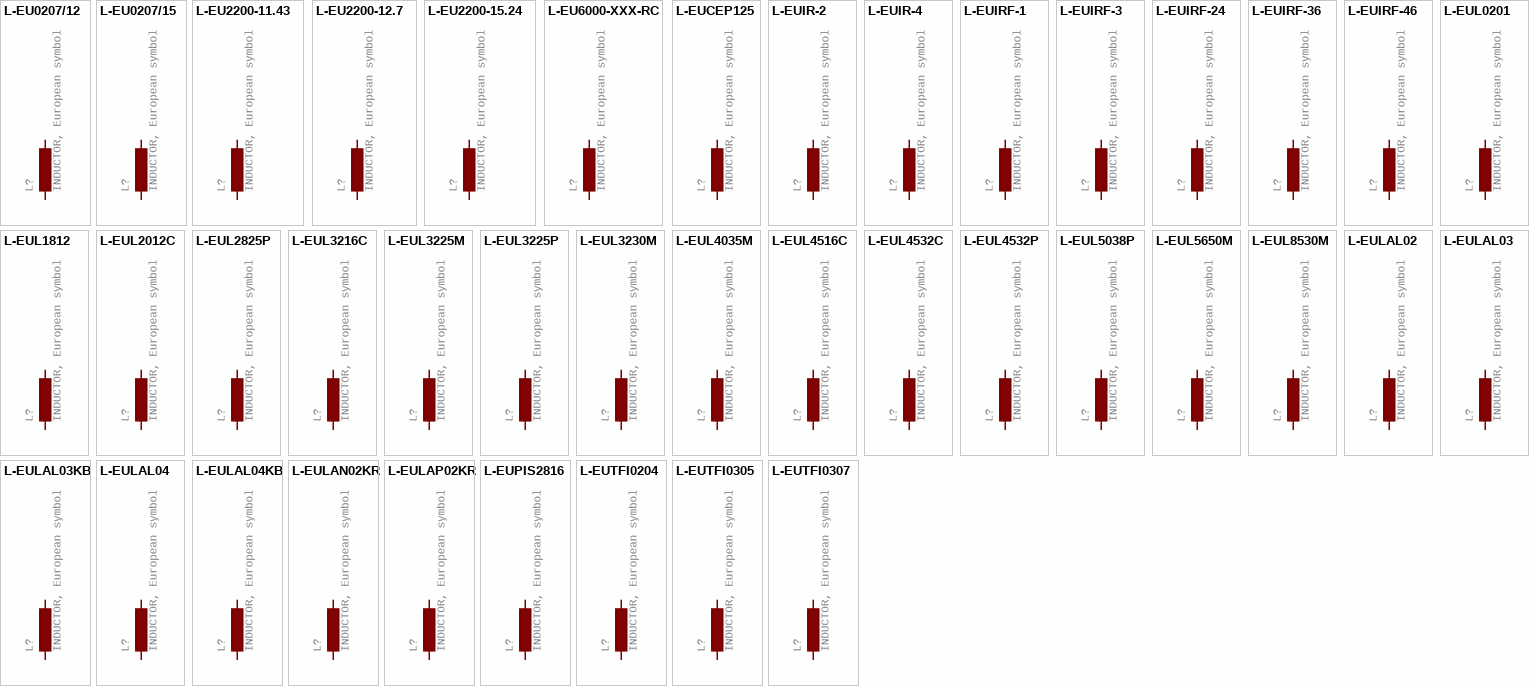
[diagram p14: symbols L-EU0207/12 to L-EUTFI0307]

## L-EU0207/12
designator L?, comment INDUCTOR, European symbol
GateName_1: G$1; SymbolName_1: L-EU; DeviceName: 0207/12; POPULARITY: 0; LibraryName: rcl@1; DeviceSetName: L-EU; Package: 0207/12; SPICEPREFIX: L
footprint 0207/12
pins: 1, 2

## L-EU0207/15
designator L?, comment INDUCTOR, European symbol
GateName_1: G$1; SymbolName_1: L-EU; DeviceName: 0207/15; POPULARITY: 0; LibraryName: rcl@1; DeviceSetName: L-EU; Package: 0207/15; SPICEPREFIX: L
footprint 0207/15
pins: 1, 2

## L-EU2200-11.43
designator L?, comment INDUCTOR, European symbol
GateName_1: G$1; SymbolName_1: L-EU; POPULARITY: 0; DeviceName: 2200-11.43; LibraryName: rcl@1; DeviceSetName: L-EU; Package: 2200-11.43; SPICEPREFIX: L
footprint 2200-11.43
pins: 1, 2

## L-EU2200-12.7
designator L?, comment INDUCTOR, European symbol
GateName_1: G$1; SymbolName_1: L-EU; POPULARITY: 0; DeviceName: 2200-12.7; LibraryName: rcl@1; DeviceSetName: L-EU; Package: 2200-12.7; SPICEPREFIX: L
footprint 2200-12.7
pins: 1, 2

## L-EU2200-15.24
designator L?, comment INDUCTOR, European symbol
GateName_1: G$1; SymbolName_1: L-EU; POPULARITY: 0; DeviceName: 2200-15.24; LibraryName: rcl@1; DeviceSetName: L-EU; Package: 2200-15.24; SPICEPREFIX: L
footprint 2200-15.24
pins: 1, 2

## L-EU6000-XXX-RC
designator L?, comment INDUCTOR, European symbol
GateName_1: G$1; SymbolName_1: L-EU; DeviceName: 6000-XXX-RC; POPULARITY: 3; LibraryName: rcl@1; DeviceSetName: L-EU; Package: 6000-XXXX-RC; SPICEPREFIX: L
footprint 6000-XXXX-RC
pins: 1, 2

## L-EUCEP125
designator L?, comment INDUCTOR, European symbol
GateName_1: G$1; SymbolName_1: L-EU; DeviceName: CEP125; POPULARITY: 0; LibraryName: rcl@1; DeviceSetName: L-EU; Package: CEP125; SPICEPREFIX: L
footprint CEP125
pins: 1, 2

## L-EUIR-2
designator L?, comment INDUCTOR, European symbol
GateName_1: G$1; SymbolName_1: L-EU; DeviceName: IR-2; POPULARITY: 0; LibraryName: rcl@1; DeviceSetName: L-EU; Package: IR-2; SPICEPREFIX: L
footprint IR-2
pins: 1, 2

## L-EUIR-4
designator L?, comment INDUCTOR, European symbol
GateName_1: G$1; SymbolName_1: L-EU; DeviceName: IR-4; POPULARITY: 0; LibraryName: rcl@1; DeviceSetName: L-EU; Package: IR-4; SPICEPREFIX: L
footprint IR-4
pins: 1, 2

## L-EUIRF-1
designator L?, comment INDUCTOR, European symbol
GateName_1: G$1; SymbolName_1: L-EU; DeviceName: IRF-1; POPULARITY: 0; LibraryName: rcl@1; DeviceSetName: L-EU; Package: IRF-1; SPICEPREFIX: L
footprint IRF-1
pins: 1, 2

## L-EUIRF-3
designator L?, comment INDUCTOR, European symbol
GateName_1: G$1; SymbolName_1: L-EU; DeviceName: IRF-3; POPULARITY: 0; LibraryName: rcl@1; DeviceSetName: L-EU; Package: IRF-3; SPICEPREFIX: L
footprint IRF-3
pins: 1, 2

## L-EUIRF-24
designator L?, comment INDUCTOR, European symbol
GateName_1: G$1; SymbolName_1: L-EU; DeviceName: IRF-24; POPULARITY: 0; LibraryName: rcl@1; DeviceSetName: L-EU; Package: IRF24; SPICEPREFIX: L
footprint IRF24
pins: 1, 2

## L-EUIRF-36
designator L?, comment INDUCTOR, European symbol
GateName_1: G$1; SymbolName_1: L-EU; DeviceName: IRF-36; POPULARITY: 0; LibraryName: rcl@1; DeviceSetName: L-EU; Package: IRF36; SPICEPREFIX: L
footprint IRF36
pins: 1, 2

## L-EUIRF-46
designator L?, comment INDUCTOR, European symbol
GateName_1: G$1; SymbolName_1: L-EU; DeviceName: IRF-46; POPULARITY: 0; LibraryName: rcl@1; DeviceSetName: L-EU; Package: IRF46; SPICEPREFIX: L
footprint IRF46
pins: 1, 2